# Altium schematic symbol library RF Filter.SchLib: 3 symbols
Pins are listed as number, name and electrical type; pins without a type are passive.

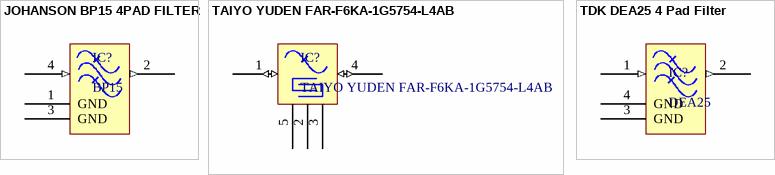
[diagram p0: symbols JOHANSON BP15 4PAD FILTER to TDK DEA25 4 Pad Filter]

## JOHANSON BP15 4PAD FILTER
designator IC?, comment BP15
pins: 1 GND "Desc1", 2 OUT (out) "Desc1", 3 GND "Desc1", 4 IN (in) "Desc1"

## TAIYO YUDEN FAR-F6KA-1G5754-L4AB
designator IC?
GPS SAW Filter Taiyo Yuden
pins: 1 IN (io) "Desc1", 2 GND "Desc1", 3 GND "Desc1", 4 OUT (io) "Desc1", 5 GND "Desc1"

## TDK DEA25 4 Pad Filter
designator IC?, comment DEA25
Multilayer chip band pass filter
pins: 1 IN (in) "Desc1", 2 OUT (out) "Desc1", 3 GND "Desc1", 4 GND "Desc1"